# Altium footprint library v-reg.PCBLIB: 52 footprints (part 3 of 4)
Each footprint in its own frame and in the unit in brackets; x right, y up, seen from the top. Pads: shape width x height; smd on the part's side, far side on the other; paste and mask are expansions set on the pad; w line width, h text height; cw(c..) or ccw(c..) is an arc to the next point about the centre after c.
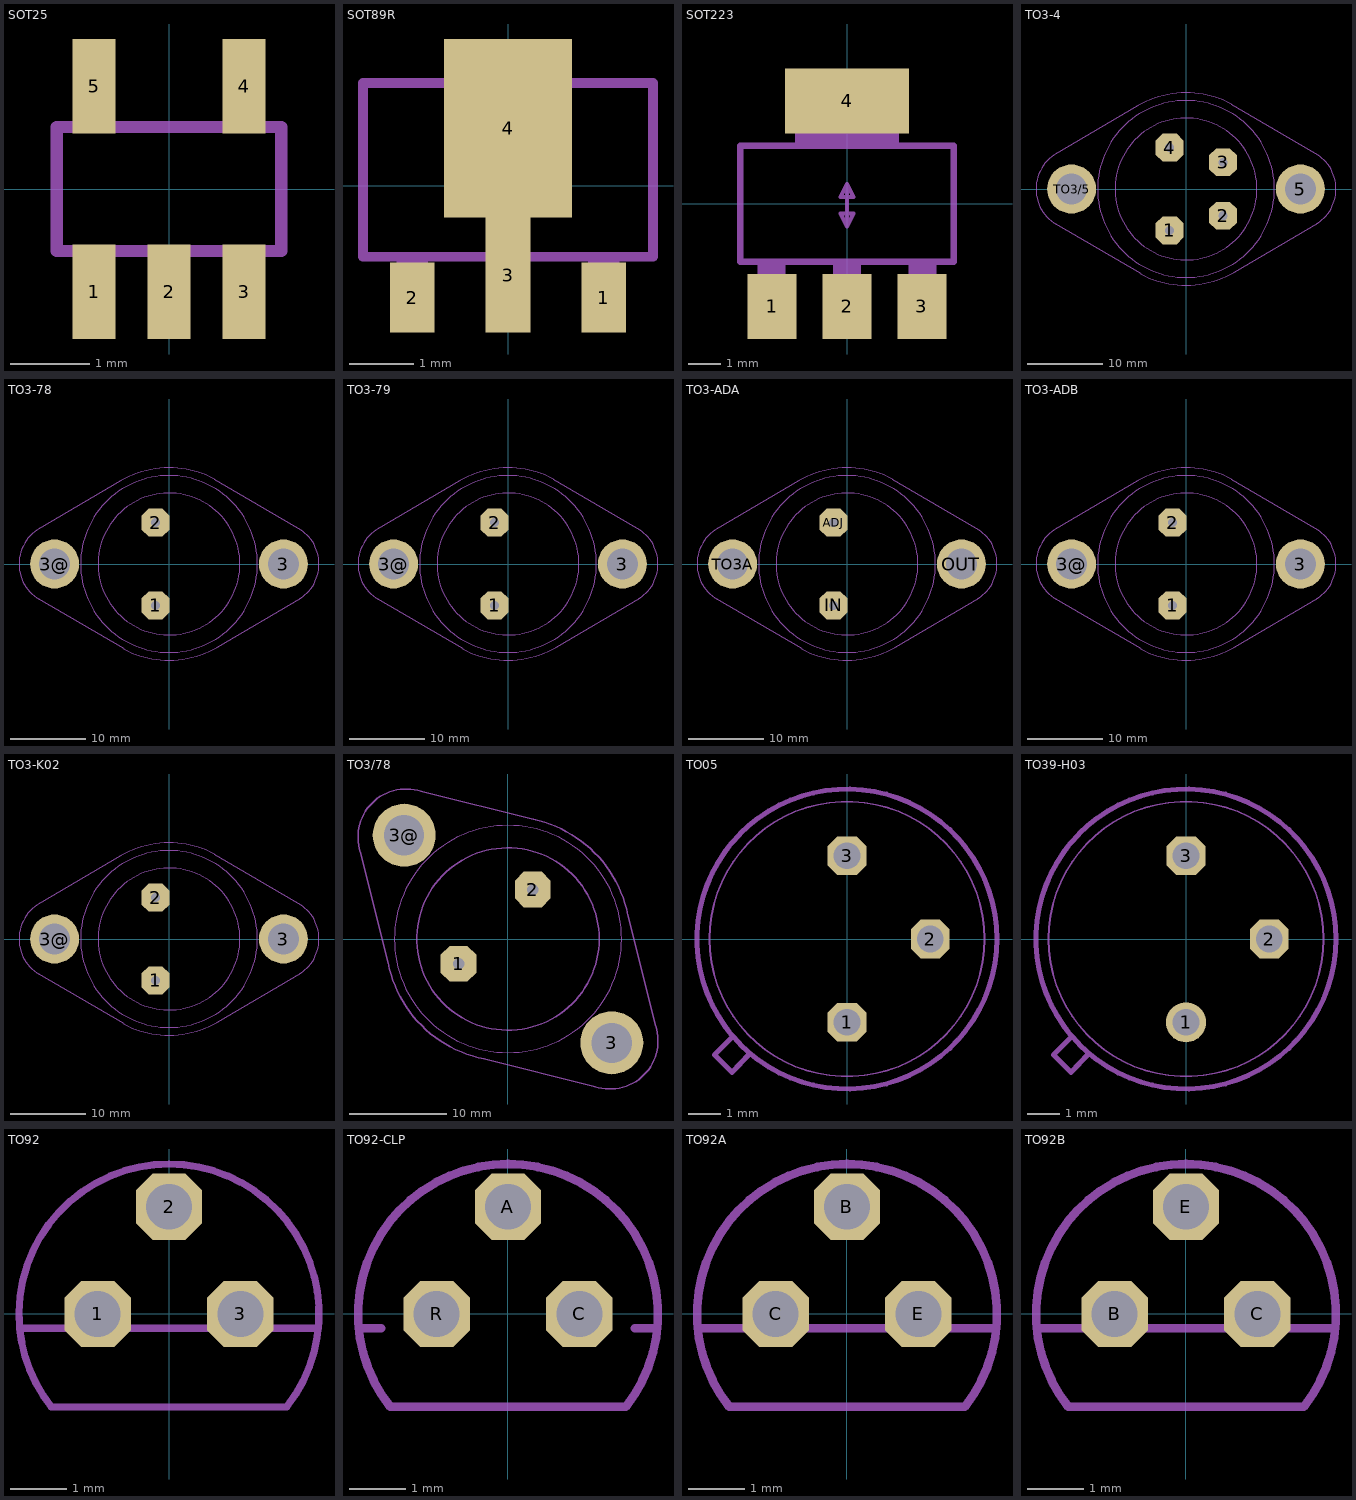
[diagram p2: the footprints below, top view; thin cyan lines are the x and y axes]

## SOT25 [mil]
pads (5):
  rect 21.65x47.24 smd: 1(-37.4,-51.18) 2(0,-51.18) 3(37.4,-51.18) 4(37.4,51.18) 5(-37.4,51.18)
Mechanical 2:
  lines w6: -52.28,-30.91 -55.98,-30.91 -55.98,30.91 -52.28,30.91 ; -20.55,-30.91 -16.85,-30.91 ; -20.55,30.91 20.55,30.91 ; 16.85,-30.91 20.55,-30.91 ; 52.28,-30.91 55.98,-30.91 55.98,30.91 52.28,30.91
Mechanical 18:
  rectangle: -47.24,-59.06 -27.56,-33.46
  rectangle: -9.84,-59.06 9.84,-33.46
  rectangle: 27.56,-59.06 47.24,-33.46
  rectangle: 27.56,33.46 47.24,59.06
  rectangle: -47.24,33.46 -27.56,59.06
  lines w6: -55.98,-30.91 55.98,-30.91 ; -55.98,30.91 55.98,30.91

## SOT89R [mm]
pads (4):
  rect 0.7x1.1 smd: 1(1.5,-1.75) 2(-1.5,-1.75)
  rect 0.7x1.8 smd paste-0.9 mask-0.9: 3(0,-1.4)
  rect 2x2.8 smd: 4(0,0.9)
Top Paste:
  rectangle: -0.35,-2.3 0.35,-1.2
Top Solder:
  rectangle: -0.45,-2.4 0.45,-1.1
Mechanical 2:
  lines w0.152: -2.272,-1.102 -2.272,1.61 -1.214,1.61 ; -0.936,-1.11 -0.578,-1.11 ; 0.564,-1.11 0.923,-1.11 ; 1.264,1.61 2.272,1.61 2.272,-1.102
Mechanical 18:
  rectangle: -1.75,-2.15 -1.25,-1.15
  rectangle: -0.25,-2.15 0.25,-1.15
  rectangle: 1.25,-2.15 1.75,-1.15
  rectangle: -0.85,1.65 0.85,2.2
  lines w0.152: -2.272,-1.11 2.272,-1.11 2.272,1.61 -2.272,1.61 -2.272,-1.11

## SOT223 [mm]
pads (4):
  rect 1.5x2 smd: 1(-2.3,-3.15) 2(0,-3.15) 3(2.3,-3.15)
  rect 3.8x2 smd: 4(0,3.15)
Mechanical 2:
  lines w0.203: -3.277,-1.778 3.277,-1.778 3.277,1.778 -3.277,1.778 -3.277,-1.778
Mechanical 15:
  lines w0.127: 0,-0.7 0,0.6 ; 0,-0.7 0.2,-0.3 -0.2,-0.3 0,-0.7 ; 0,0.6 -0.2,0.2 0.2,0.2 0,0.6
Mechanical 18:
  region: -1.6,3.658 -1.6,1.803 1.6,1.803 1.6,3.658
  region: -0.432,-1.803 -0.432,-3.658 0.432,-3.658 0.432,-1.803
  region: -2.743,-1.803 -2.743,-3.658 -1.88,-3.658 -1.88,-1.803
  region: 1.88,-1.803 1.88,-3.658 2.743,-3.658 2.743,-1.803
  region: -1.6,3.658 -1.6,1.803 1.6,1.803 1.6,3.658
  region: -0.432,-1.803 -0.432,-3.658 0.432,-3.658 0.432,-1.803
  region: -2.743,-1.803 -2.743,-3.658 -1.88,-3.658 -1.88,-1.803
  region: 1.88,-1.803 1.88,-3.658 2.743,-3.658 2.743,-1.803

## TO3-4 [mil]
pads (6):
  oct 145.24x145.24 hole 47: 1(-85,-215) 2(193,-139) 3(193,139) 4(-85,215)
  round 255 hole 162: 5(595,0) TO3/5(-595,0)
Mechanical 2:
  circle w6: c0,0 r369
  circle w2: c0,0 r460
  lines w6: -680,180 -250,433 ; -679,-181 -234,-442 ; -675.41,-183.35 cw(c-567,0) -780,0 cw(c-567,0) -672.94,184.78 ; -250.86,432.52 cw(c-0.01,0) 0,500 cw(c0.01,-0.01) 235.3,441.18 ; -235.3,-441.18 ccw(c-0.01,0.01) 0,-500 ccw(c0.01,0) 250.86,-432.52 ; 235,441 684,178 ; 251,-433 684,-178 ; 682.54,-178.94 ccw(c567,0) 780,0 ccw(c567,0) 682.54,178.94
Mechanical 18:
  circle w6: c595,0 r85
  circle w6: c-595,0 r85

## TO3-78 [mil]
pads (4):
  oct 145.24x145.24 hole 47: 1(-70,-215) 2(-70,215)
  round 255 hole 162: 3(595,0) 3@(-595,0)
Mechanical 2:
  circle w6: c0,0 r369
  circle w2: c0,0 r460
  lines w6: -680,180 -250,433 ; -679,-181 -234,-442 ; -675.41,-183.35 cw(c-567,0) -780,0 cw(c-567,0) -672.94,184.78 ; -250.86,432.52 cw(c-0.01,0) 0,500 cw(c0.01,-0.01) 235.3,441.18 ; -235.3,-441.18 ccw(c-0.01,0.01) 0,-500 ccw(c0.01,0) 250.86,-432.52 ; 235,441 684,178 ; 251,-433 684,-178 ; 682.54,-178.94 ccw(c567,0) 780,0 ccw(c567,0) 682.54,178.94
Mechanical 18:
  circle w6: c595,0 r85
  circle w6: c-595,0 r85

## TO3-79 [mil]
pads (4):
  oct 145.24x145.24 hole 47: 1(-70,-215) 2(-70,215)
  round 255 hole 162: 3(595,0) 3@(-595,0)
Mechanical 2:
  circle w6: c0,0 r369
  circle w2: c0,0 r460
  lines w6: -680,180 -250,433 ; -679,-181 -234,-442 ; -675.41,-183.35 cw(c-567,0) -780,0 cw(c-567,0) -672.94,184.78 ; -250.86,432.52 cw(c-0.01,0) 0,500 cw(c0.01,-0.01) 235.3,441.18 ; -235.3,-441.18 ccw(c-0.01,0.01) 0,-500 ccw(c0.01,0) 250.86,-432.52 ; 235,441 684,178 ; 251,-433 684,-178 ; 682.54,-178.94 ccw(c567,0) 780,0 ccw(c567,0) 682.54,178.94
Mechanical 18:
  circle w6: c595,0 r85
  circle w6: c-595,0 r85

## TO3-ADA [mil]
pads (4):
  oct 145.24x145.24 hole 47: ADJ(-70,215) IN(-70,-215)
  round 255 hole 162: OUT(595,0) TO3A(-595,0)
Mechanical 2:
  circle w6: c0,0 r369
  circle w2: c0,0 r460
  lines w6: -680,180 -250,433 ; -679,-181 -234,-442 ; -675.41,-183.35 cw(c-567,0) -780,0 cw(c-567,0) -672.94,184.78 ; -250.86,432.52 cw(c-0.01,0) 0,500 cw(c0.01,-0.01) 235.3,441.18 ; -235.3,-441.18 ccw(c-0.01,0.01) 0,-500 ccw(c0.01,0) 250.86,-432.52 ; 235,441 684,178 ; 251,-433 684,-178 ; 682.54,-178.94 ccw(c567,0) 780,0 ccw(c567,0) 682.54,178.94
Mechanical 18:
  circle w6: c595,0 r85
  circle w6: c-595,0 r85

## TO3-ADB [mil]
pads (4):
  oct 145.24x145.24 hole 47: 1(-70,-215) 2(-70,215)
  round 255 hole 162: 3(595,0) 3@(-595,0)
Mechanical 2:
  circle w6: c0,0 r369
  circle w2: c0,0 r460
  lines w6: -680,180 -250,433 ; -679,-181 -234,-442 ; -675.41,-183.35 cw(c-567,0) -780,0 cw(c-567,0) -672.94,184.78 ; -250.86,432.52 cw(c-0.01,0) 0,500 cw(c0.01,-0.01) 235.3,441.18 ; -235.3,-441.18 ccw(c-0.01,0.01) 0,-500 ccw(c0.01,0) 250.86,-432.52 ; 235,441 684,178 ; 251,-433 684,-178 ; 682.54,-178.94 ccw(c567,0) 780,0 ccw(c567,0) 682.54,178.94
Mechanical 18:
  circle w6: c595,0 r85
  circle w6: c-595,0 r85

## TO3-K02 [mil]
pads (4):
  oct 145.24x145.24 hole 47: 1(-70,-215) 2(-70,215)
  round 255 hole 162: 3(595,0) 3@(-595,0)
Mechanical 2:
  circle w6: c0,0 r369
  circle w2: c0,0 r460
  lines w6: -680,180 -250,433 ; -679,-181 -234,-442 ; -675.41,-183.35 cw(c-567,0) -780,0 cw(c-567,0) -672.94,184.78 ; -250.86,432.52 cw(c-0.01,0) 0,500 cw(c0.01,-0.01) 235.3,441.18 ; -235.3,-441.18 ccw(c-0.01,0.01) 0,-500 ccw(c0.01,0) 250.86,-432.52 ; 235,441 684,178 ; 251,-433 684,-178 ; 682.54,-178.94 ccw(c567,0) 780,0 ccw(c567,0) 682.54,178.94
Mechanical 18:
  circle w6: c595,0 r85
  circle w6: c-595,0 r85

## TO3/78 [mil]
pads (4):
  oct 145.24x145.24 hole 47: 1(-200,-100) 2(100,200)
  round 255 hole 162: 3(420,-420) 3@(-420,420)
Mechanical 2:
  circle w6: c0,0 r369
  circle w2: c0,0 r460
  lines w6: -598,354 -485,-98 ; -597.47,351.27 cw(c-412,412) -550,550 cw(c-411.99,412) -350.88,597.35 ; -485.36,-97.07 ccw(c0,0) -350,-350 ccw(c0,0) -97.07,-485.36 ; -354,598 118,480 ; -98,-485 354,-598 ; 103.71,483.99 cw(c-0.01,0) 350,350 cw(c0,0) 485.36,97.07 ; 350.88,-597.34 ccw(c411.99,-412) 549.99,-549.99 ccw(c412,-411.99) 597.48,-351.27 ; 485,98 598,-354
Mechanical 18:
  circle w6: c420,-420 r85
  circle w6: c-420,420 r85

## TO05 [mil]
pads (3):
  oct 46.48x46.48 hole 32: 1(0,-100) 2(100,0) 3(0,100)
Mechanical 2:
  circle w6: c0,0 r180
  circle w2: c0,0 r165
  lines w6: -137,-117 -159,-139 -138,-160 -117,-138

## TO39-H03 [mil]
pads (3):
  round 48 hole 32: 1(0,-100)
  oct 46.48x46.48 hole 32: 2(100,0) 3(0,100)
Mechanical 2:
  circle w6: c0,0 r180
  circle w2: c0,0 r165
  lines w6: -137,-117 -159,-139 -138,-160 -117,-138

## TO92 [mil]
pads (3):
  oct 46.48x46.48 hole 32: 1(-50,0) 2(0,75) 3(50,0)
Mechanical 2:
  lines w5: -88.73,-10 -104.52,-10 ; -30.96,100.33 ccw(c0,0) -104.52,-10 ; -11.27,-10 11.27,-10 ; 30.96,100.33 cw(c0,0) 82.46,-65 -82.46,-65 cw(c0,0) -104.52,-10 ; 88.73,-10 104.52,-10
Mechanical 18:
  lines w5: -88.73,-10 -11.27,-10 ; -30.96,100.33 cw(c0,-0.02) 30.96,100.33 ; 11.27,-10 88.73,-10

## TO92-CLP [mil]
pads (3):
  oct 46.48x46.48 hole 32: A(0,75) C(50,0) R(-50,0)
Mechanical 2:
  lines w6: -104.53,-10 -88.74,-10 ; -82.48,-65 82.48,-65 ccw(c0.02,0) 30.98,100.33 ; -82.46,-65 cw(c0,0) -30.96,100.33 ; 88.74,-10 104.53,-10
Mechanical 18:
  lines w6: -30.96,100.33 cw(c0,-0.02) 30.96,100.33

## TO92A [mil]
pads (3):
  oct 46.48x46.48 hole 32: B(0,75) C(-50,0) E(50,0)
Mechanical 2:
  lines w6: -104.53,-10 -88.74,-10 ; -82.48,-65 82.48,-65 ccw(c0.02,0) 30.98,100.33 ; -82.46,-65 cw(c0,0) -30.96,100.33 ; -11.26,-10 11.26,-10 ; 88.74,-10 104.53,-10
Mechanical 18:
  lines w6: -88.74,-10 -11.26,-10 ; -30.96,100.33 cw(c0,-0.02) 30.96,100.33 ; 11.26,-10 88.74,-10

## TO92B [mil]
pads (3):
  oct 46.48x46.48 hole 32: B(-50,0) C(50,0) E(0,75)
Mechanical 2:
  lines w6: -104.53,-10 -88.74,-10 ; -82.48,-65 82.48,-65 ccw(c0.02,0) 30.98,100.33 ; -82.46,-65 cw(c0,0) -30.96,100.33 ; -11.26,-10 11.26,-10 ; 88.74,-10 104.53,-10
Mechanical 18:
  lines w6: -88.74,-10 -11.26,-10 ; -30.96,100.33 cw(c0,-0.02) 30.96,100.33 ; 11.26,-10 88.74,-10